# EAGLE library part FH28-50S-0.5SH(51) (library con-hirose)
Flexible Printed Circuit & Flexible Flat Cable ZIF Connectors 0.5 mm Pitch, 2.55 mm above the board Source: http://www.hirose.co.jp/cataloge_hp/e58618038.pdf
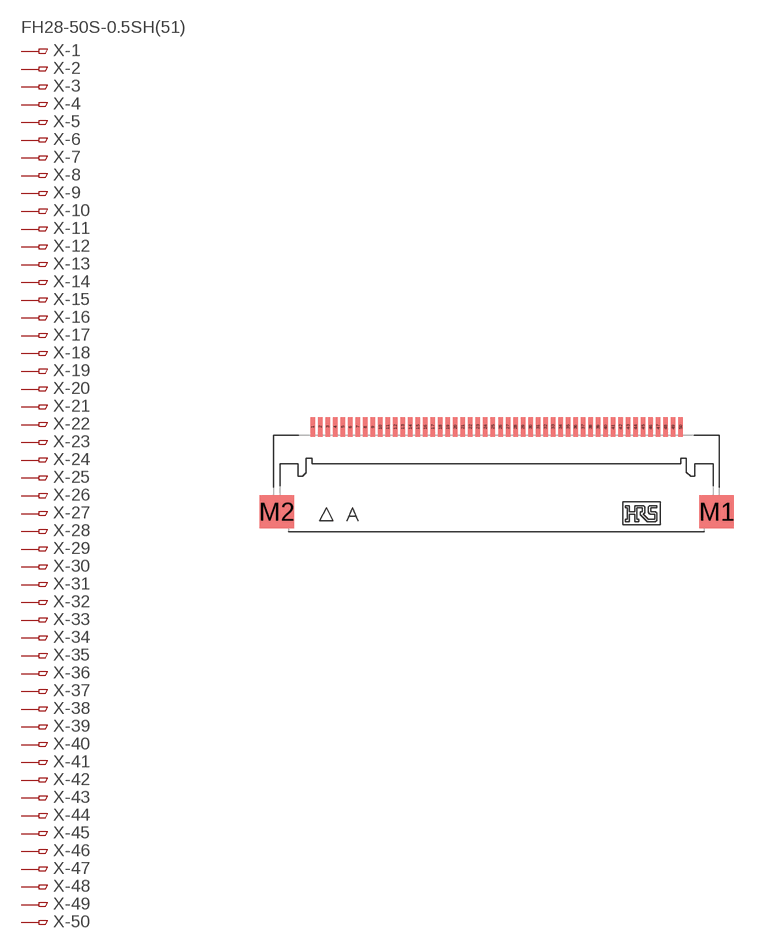
[diagram p5: symbol with the pads of FH28-50S-0.5SH(51); footprint FH28-50S-0.5SH(51)]

Designator prefix X; gates -2=PIN -3=PIN -4=PIN -5=PIN -6=PIN -7=PIN -8=PIN -9=PIN -10=PIN -11=PIN -12=PIN -13=PIN -14=PIN -15=PIN -16=PIN -17=PIN -18=PIN -19=PIN -20=PIN -21=PIN -22=PIN -23=PIN -24=PIN -25=PIN -26=PIN -27=PIN -28=PIN -29=PIN -30=PIN -31=PIN -32=PIN -33=PIN -34=PIN -35=PIN -36=PIN -37=PIN -38=PIN -39=PIN -40=PIN -41=PIN -42=PIN -43=PIN -44=PIN -45=PIN -46=PIN -47=PIN -48=PIN -49=PIN -50=PIN -1=PINV

## FH28-50S-0.5SH(51) (OC_FARNELL: unknown; OC_NEWARK: unknown)  [FH28-50S-0.5SH(51)]
1  -1:1  pas
2  -2:1  pas
3  -3:1  pas
4  -4:1  pas
5  -5:1  pas
6  -6:1  pas
7  -7:1  pas
8  -8:1  pas
9  -9:1  pas
10  -10:1  pas
11  -11:1  pas
12  -12:1  pas
13  -13:1  pas
14  -14:1  pas
15  -15:1  pas
16  -16:1  pas
17  -17:1  pas
18  -18:1  pas
19  -19:1  pas
20  -20:1  pas
21  -21:1  pas
22  -22:1  pas
23  -23:1  pas
24  -24:1  pas
25  -25:1  pas
26  -26:1  pas
27  -27:1  pas
28  -28:1  pas
29  -29:1  pas
30  -30:1  pas
31  -31:1  pas
32  -32:1  pas
33  -33:1  pas
34  -34:1  pas
35  -35:1  pas
36  -36:1  pas
37  -37:1  pas
38  -38:1  pas
39  -39:1  pas
40  -40:1  pas
41  -41:1  pas
42  -42:1  pas
43  -43:1  pas
44  -44:1  pas
45  -45:1  pas
46  -46:1  pas
47  -47:1  pas
48  -48:1  pas
49  -49:1  pas
50  -50:1  pas

## Footprint FH28-50S-0.5SH(51) (pad centres in mm)
Flexible Printed Circuit & Flexible Flat Cable ZIF Connectors 0.5 mm Pitch, 2.55 mm above the board Source: http://www.hirose.co.jp/cataloge_hp/e58618038.pdf
smd 0.3 x 1.3: 1 -12.25,3.5; 2 -11.75,3.5; 3 -11.25,3.5; 4 -10.75,3.5; 5 -10.25,3.5; 6 -9.75,3.5; 7 -9.25,3.5; 8 -8.75,3.5; 9 -8.25,3.5; 10 -7.75,3.5; 11 -7.25,3.5; 12 -6.75,3.5; 13 -6.25,3.5; 14 -5.75,3.5; 15 -5.25,3.5; 16 -4.75,3.5; 17 -4.25,3.5; 18 -3.75,3.5; 19 -3.25,3.5; 20 -2.75,3.5; 21 -2.25,3.5; 22 -1.75,3.5; 23 -1.25,3.5; 24 -0.75,3.5; 25 -0.25,3.5; 26 0.25,3.5; 27 0.75,3.5; 28 1.25,3.5; 29 1.75,3.5; 30 2.25,3.5; 31 2.75,3.5; 32 3.25,3.5; 33 3.75,3.5; 34 4.25,3.5; 35 4.75,3.5; 36 5.25,3.5; 37 5.75,3.5; 38 6.25,3.5; 39 6.75,3.5; 40 7.25,3.5; 41 7.75,3.5; 42 8.25,3.5; 43 8.75,3.5; 44 9.25,3.5; 45 9.75,3.5; 46 10.25,3.5; 47 10.75,3.5; 48 11.25,3.5; 49 11.75,3.5; 50 12.25,3.5
smd 2.3 x 2.2: M1 14.65,-2.15; M2 -14.65,-2.15